# EAGLE library part PINHEAD_1X10 (library pinhead)
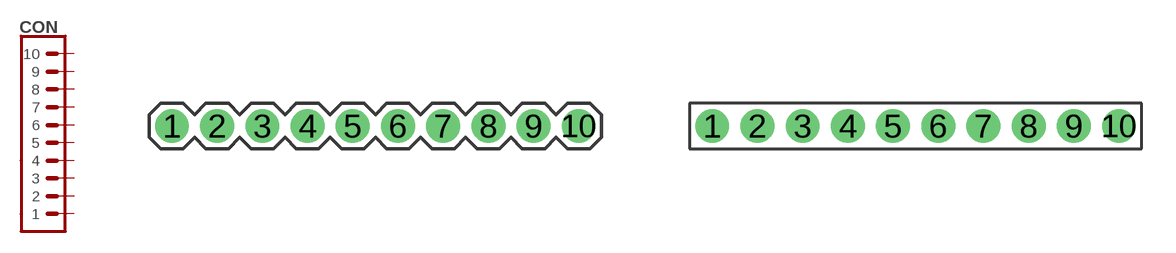
[diagram p20: symbol with the pads of PLS2-10; footprints PLS2-10, PBS2-10]

Designator prefix CON

## PINHEAD_1X10-2  [PLS2-10]
1  1  pas
2  2  pas
3  3  pas
4  4  pas
5  5  pas
6  6  pas
7  7  pas
8  8  pas
9  9  pas
10  10  pas

## PINHEAD_1X10-2-FEMALE (DIGIKEY#: S5751-10-ND; MANF: Sullins Connector Solutions; MANF#: NPPN101BFCN-RC)  [PBS2-10]
Pads as for PLS2-10

## PINHEAD_1X10-2.54-PTH-MALE  [PLS10]
Pads as for PLS2-10

## PINHEAD_1X10-2.54-PTH-FEMALE  [1X10-PTH-2.54-FEMALE]
Pads as for PLS2-10

## PINHEAD_1X10-2-RA  [1X10-PTH-2-RA]
Pads as for PLS2-10

## Footprint PLS2-10 (pad centres in mm)
3D model <https://grabcad.com/library/pls2-connectors-1>
drill 0.8 pad 1.5: 1 -9,0; 2 -7,0; 3 -5,0; 4 -3,0; 5 -1,0; 6 1,0; 7 3,0; 8 5,0; 9 7,0; 10 9,0

## Footprint PBS2-10 (pad centres in mm)
3D model <https://grabcad.com/library/pbs2-connectors-h6-35-1>
drill 0.8 pad 1.5: 1 -9,0; 2 -7,0; 3 -5,0; 4 -3,0; 5 -1,0; 6 1,0; 7 3,0; 8 5,0; 9 7,0; 10 9,0

## Footprint PLS10 (pad centres in mm)
3D model <https://grabcad.com/library/pls-connectors-1>
drill 1 pad 1.8: 1 -11.43,0; 2 -8.89,0; 3 -6.35,0; 4 -3.81,0; 5 -1.27,0; 6 1.27,0; 7 3.81,0; 8 6.35,0; 9 8.89,0; 10 11.43,0

## Footprint 1X10-PTH-2.54-FEMALE (pad centres in mm)
drill 1 pad 1.7: 1 -11.43,0; 2 -8.89,0; 3 -6.35,0; 4 -3.81,0; 5 -1.27,0; 6 1.27,0; 7 3.81,0; 8 6.35,0; 9 8.89,0; 10 11.43,0

## Footprint 1X10-PTH-2-RA (pad centres in mm)
drill 0.8 pad 1.5: 1 -9,0; 2 -7,0; 3 -5,0; 4 -3,0; 5 -1,0; 6 1,0; 7 3,0; 8 5,0; 9 7,0; 10 9,0